# Altium footprint library Terminal.PcbLib: 11 footprints
Each footprint in its own frame and in the unit in brackets; x right, y up, seen from the top. Pads: shape width x height; smd on the part's side, far side on the other; paste and mask are expansions set on the pad; w line width, h text height; cw(c..) or ccw(c..) is an arc to the next point about the centre after c.
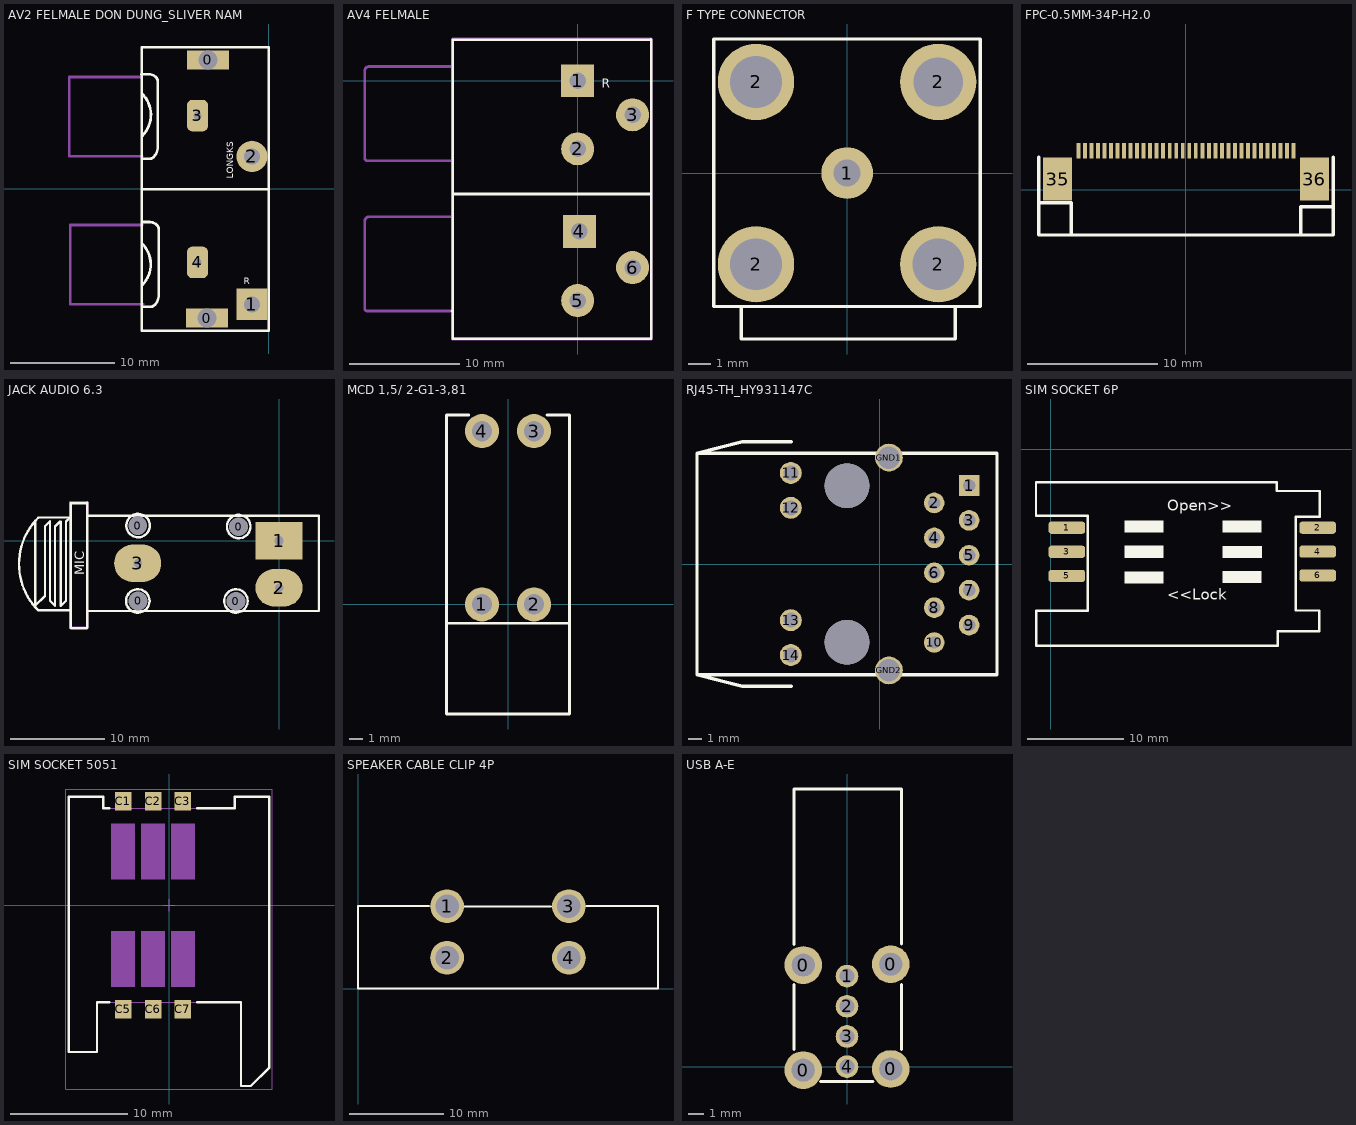
[diagram p0: the footprints below, top view; thin cyan lines are the x and y axes]

## AV2 FELMALE DON DUNG_SLIVER NAM [mm]
pads (6):
  rect 4x1.8 hole 1.8 square: 0(-5.9,-12.3) 0(-5.8,12.3)
  rect 3x3 hole 1.5: 1(-1.6,-11)
  round 3 hole 1.5: 2(-1.6,3.1)
  rrect50% 2x3 hole 0.8 square: 3(-6.8,7) 4(-6.8,-7)
Top Overlay:
  lines w0.254: -12.15,10.95 -11.439,10.95 cw(c-11.439,10.011) -10.775,10.675 cw(c-11.258,10.192) -10.575,10.192 -10.575,4.016 cw(c-11.941,4.016) -10.975,3.05 cw(c-11.397,3.472) -11.397,2.875 -12.075,2.875 ; -12.125,-5.15 cw(c-14.088,-7.188) -12.05,-9.15 ; -12.1,9.1 cw(c-14.063,7.063) -12.025,5.1 ; -12.05,-3.15 -11.339,-3.15 cw(c-11.339,-4.089) -10.675,-3.425 cw(c-11.158,-3.908) -10.475,-3.908 -10.475,-10.084 cw(c-11.841,-10.084) -10.875,-11.05 cw(c-11.297,-10.628) -11.297,-11.225 -11.975,-11.225 ; -12,-0.025 0,-0.025 ; -12.1,-13.5 -12.1,13.5 0,13.5 0,-13.5 -12.1,-13.5
  text "LONGKS" at -3.4,1 h0.64
  text "R" at -2.4,-9.1 h0.64
Mechanical 13:
  lines w0.254: -19.025,3.125 -12.075,3.125 ; -19.025,3.15 -19.025,10.675 -12.15,10.675 ; -18.925,-10.975 -11.975,-10.975 ; -18.925,-10.95 -18.925,-3.425 -12.05,-3.425
3D body "RCA-210.step": height 21, standoff -4, extent -19.3,-13.4 -1.4,13.4

## AV4 FELMALE [mm]
height 1.1
pads (6):
  rect 3x3 hole 1.5: 1(0,0) 4(0.152,-13.7)
  round 3 hole 1.5: 2(0,-6.2) 3(5,-3.1) 5(0,-20) 6(5,-17)
Top Overlay:
  lines w0.254: -11.425,-20.95 ccw(c-11.425,-20.925) -11.4,-20.925 ; -11.36,3.661 -11.36,-23.468 6.699,-23.446 6.699,3.712 6.649,3.762 ; -11.351,3.737 6.674,3.756 ; -11.35,-10.3 6.7,-10.3
  text "R" at 2.175,-0.625 h0.8
Mechanical 13:
  lines w0.254: -11.425,-20.95 -19.15,-20.95 cw(c-19.15,-20.725) -19.375,-20.725 -19.375,-12.775 cw(c-18.975,-12.775) -18.975,-12.375 -11.425,-12.375 ; -11.425,-7.275 -19.15,-7.275 cw(c-19.15,-7.05) -19.375,-7.05 -19.375,0.9 cw(c-18.975,0.9) -18.975,1.3 -11.425,1.3 ; -11.4,-23.5 -11.4,3.8 6.7,3.8 6.7,-23.5 -11.4,-23.5
3D body "AV4_8.4-13.stp": height 27.5, standoff -4.4, extent -19.5,-23.4 5.5,3.6

## F TYPE CONNECTOR [mm]
pads (5):
  round 2.3 hole 1.2: 1(0,0)
  round 3.4 hole 2.3: 2(-4.06,-4.06) 2(-4.06,4.06) 2(4.06,-4.06)
  round 3.4 hole 2.2: 2(4.06,4.06)
Top Overlay:
  lines w0.152: -4.72,-5.99 -4.72,-7.387 4.805,-7.387 4.805,-5.94 ; -5.94,-5.94 5.922,-5.94 5.922,5.973 -5.94,5.973 -5.94,-5.94
3D body "5-1634540-0.stp": height 13.5, standoff -3.6, extent -4.695,-23.297 4.805,4.703

## FPC-0.5MM-34P-H2.0 [mm]
pads (36):
  rect 0.3x1.2 smd: 1(-8.248,2.986) 2(-7.748,2.986) 3(-7.248,2.986) 4(-6.748,2.986) 5(-6.248,2.986) 6(-5.748,2.986) 7(-5.248,2.986) 8(-4.748,2.986) 9(-4.248,2.986) 10(-3.748,2.986) 11(-3.248,2.986) 12(-2.748,2.986) 13(-2.248,2.986) 14(-1.748,2.986) 15(-1.248,2.986) 16(-0.748,2.986) 17(-0.248,2.986) 18(0.25,2.988) 19(0.75,2.988) 20(1.25,2.988) 21(1.75,2.988) 22(2.25,2.988) 23(2.75,2.988) 24(3.25,2.988) 25(3.75,2.988) 26(4.25,2.988) 27(4.75,2.988) 28(5.25,2.988) 29(5.75,2.988) 30(6.25,2.988) 31(6.75,2.988) 32(7.252,2.986) 33(7.752,2.986) 34(8.247,2.989)
  rect 2.2x3.3 smd: 35(-9.85,0.818) 36(9.85,0.818)
Top Overlay:
  lines w0.25: -11.3,-1 -8.8,-1 -8.8,-3.4 ; 8.8,-3.4 8.8,-1.3 11.3,-1.3
  lines w0.254: -11.3,2.5 -11.3,-3.462 11.3,-3.462 11.3,2.5

## JACK AUDIO 6.3 [mm] "mic CK-6.35-309S-11.5"
height 1.1
pads (7):
  round 1.524 hole 2: 0(-14.986,1.6) 0(-14.961,-6.401) 0(-4.575,-6.425) 0(-4.3,1.475)
  rect 5x4 hole 1 square: 1(0,0)
  oval 5x4 hole 0.9 square: 2(0,-5) 3(-15,-2.4)
Top Overlay:
  circle w0.254: c-14.961,1.6 r1.246
  circle w0.254: c-14.986,-6.401 r1.246
  circle w0.254: c-4.575,-6.4 r1.246
  circle w0.254: c-4.275,1.5 r1.246
  lines w0.254: -25.883,2.007 -25.883,-6.909 -24.841,-5.867 -24.841,1.524 -24.308,2.057 -24.308,-6.375 -23.774,-6.909 -23.774,1.499 -23.241,2.032 -23.165,2.032 -23.165,-6.934 -22.606,-6.375 -22.606,2.032 -22.149,2.489 ; -25.578,-7.366 cw(c-20.663,-2.476) -25.552,2.438 ; -25.578,2.464 -22.123,2.464 ; -25.527,-7.391 -22.098,-7.391 ; -22.098,3.98 -22.098,-9.271 -22.073,-9.296 -20.396,-9.296 -20.371,-9.271 ; -22.073,3.988 -20.422,3.988 -20.396,3.962 ; -20.371,-9.246 -20.371,4.005 ; -20.371,-7.468 4.242,-7.468 4.242,2.642 -20.345,2.642
  text "MIC" at -20.675,-3.65 h1
Mechanical 13:
  lines w0.254: -20.371,4.039 -20.371,2.692 -20.295,2.616 4.216,2.616 4.216,-7.417 4.166,-7.468 -20.244,-7.468 -20.371,-7.595 -20.371,-9.169 -20.447,-9.246 -22.149,-9.246 -22.174,-9.271 -22.174,4.064 -20.371,4.064
3D body "Mic6.35x11.stp": height 11.25, standoff -4.25, extent -31.995,-9.423 4.005,4.577

## MCD 1,5/ 2-G1-3,81 [mm]
height 5.08
pads (4):
  round 2.5 hole 1.5: 1(-1.905,0) 2(1.905,0) 3(1.905,12.7) 4(-1.905,12.7)
Top Overlay:
  lines w0.2: -4.5,-1.375 4.5,-1.375 ; -2.875,13.875 -4.5,13.875 -4.5,-8.025 4.5,-8.025 4.5,13.875 2.85,13.875
3D body "1843075.stp": height 22.7, standoff -3.5, extent -4.475,-8.1 4.535,13.8

## RJ45-TH_HY931147C [mm] "C91754"
height 1.1
pads (18):
  rect 1.5x1.5 hole 0.9: 1(6.49,5.715)
  round 1.5 hole 0.9: 2(3.95,4.445) 3(6.49,3.175) 4(3.95,1.905) 5(6.49,0.635) 6(3.95,-0.635) 7(6.49,-1.905) 8(3.95,-3.175) 9(6.49,-4.445) 10(3.95,-5.715)
  round 1.6 hole 1.1: 11(-6.49,6.629) 12(-6.49,4.089) 13(-6.49,-4.089) 14(-6.49,-6.629)
  round 2.029 hole 1.631: GND1(0.648,7.747) GND2(0.648,-7.747)
  round 3.25 hole 3.25 unplated: ""(-2.4,-5.7) ""(-2.4,5.7)
Top Overlay:
  lines w0.254: -6.464,-8.89 -10.02,-8.89 -13.322,-8.052 ; -6.464,8.89 -10.02,8.89 -13.322,8.052 ; -1.13,-8.052 -13.322,-8.052 ; -1.13,8.052 -13.322,8.052 ; 2.172,-8.052 8.522,-8.052 ; 2.172,8.052 8.522,8.052 ; -13.322,-8.052 -13.322,8.052 ; -13.322,-8.052 8.522,-8.052 ; -13.322,-8.052 -13.322,8.052 ; -13.322,8.052 8.522,8.052 ; 8.522,-8.052 8.522,8.052 ; 8.522,-8.052 8.522,8.052
3D body "RJ45.stp": height 14, standoff -0.09, extent -13.325,-8.993 7.427,8.993

## SIM SOCKET 6P [mil]
pads (6):
  rrect50% 150x50 smd: 1(65,-320) 2(1088.62,-320) 3(65,-418.43) 4(1088.62,-417.5) 5(65,-516.85) 6(1088.62,-515)
Top Overlay:
  rectangle: 700,-545.67 860,-495.67
  rectangle: 700.79,-444.49 860.79,-394.49
  rectangle: 700,-340 860,-290
  rectangle: 299.84,-548.03 459.84,-498.03
  rectangle: 299.84,-443.31 459.84,-393.31
  rectangle: 300,-340 460,-290
  lines w10: -61.02,-271.26 -61.02,-134.65 921.26,-134.65 921.26,-170.08 1097.24,-170.08 1097.24,-274.8 1000,-274.8 1000,-657.87 1095.28,-657.87 1095.28,-742.91 925.2,-742.91 925.2,-801.57 -60.63,-801.57 -60.63,-659.06 150,-659.06 150,-271.26 -61.02,-271.26
  text "<<Lock" at 475,-615 h45
  text "Open>>" at 475,-250 h45
3D body "User Library-SIM5060-6-0-26-01-A.STEP": height 102.97, standoff -26.96, extent -66.14,-806.69 1100.79,-129.53

## SIM SOCKET 5051 [mm]
pads (6):
  rect 1.4x1.6 smd: C1(-3.9,8.85) C2(-1.36,8.85) C3(1.18,8.85) C5(-3.9,-8.85) C6(-1.36,-8.85) C7(1.18,-8.85)
Top Overlay:
  lines w0.2: -5.1,-8.25 -6.13,-8.25 -6.13,-12.5 -8.55,-12.5 -8.55,9.25 -5.6,9.25 -5.6,8.25 -5.1,8.25 ; 2.4,-8.25 6.13,-8.25 6.13,-15.4 6.97,-15.4 8.55,-13.82 8.55,9.25 5.6,9.25 5.6,8.25 2.4,8.25
Mechanical 13:
  lines w0.1: -8.55,-12.5 -8.55,9.25 -5.6,9.25 -5.6,8.25 5.6,8.25 5.6,9.25 8.55,9.25 8.55,-13.82 6.97,-15.4 6.13,-15.4 6.13,-8.25 -6.13,-8.25 -6.13,-12.5 -8.55,-12.5
Mechanical 15:
  region: 2.18,-6.95 0.18,-6.95 0.18,-2.2 2.18,-2.2
  region: -0.36,2.2 -2.36,2.2 -2.36,6.95 -0.36,6.95
  region: -0.36,-6.95 -2.36,-6.95 -2.36,-2.2 -0.36,-2.2
  region: 2.18,2.2 0.18,2.2 0.18,6.95 2.18,6.95
  region: -2.9,-6.95 -4.9,-6.95 -4.9,-2.2 -2.9,-2.2
  region: -2.9,2.2 -4.9,2.2 -4.9,6.95 -2.9,6.95
  lines w0.05: -8.8,-15.65 8.8,-15.65 8.8,9.9 -8.8,9.9 -8.8,-15.65
  lines w0.1: -0.5,0 0.5,0 ; 0,-0.5 0,0.5
3D body "473880001, SIM, Assembly.STEP": height 1.95, standoff -0.05, extent -9.083,-15.614 9.017,9.906

## SPEAKER CABLE CLIP 4P [mm]
pads (4):
  round 3.6 hole 2.5: 1(9.477,8.802) 2(9.477,3.302) 3(22.477,8.802) 4(22.477,3.302)
Top Overlay:
  lines w0.203: 7.569,8.802 -0.023,8.802 -0.023,0.002 31.977,0.002 31.977,8.802 24.333,8.802 ; 11.354,8.788 20.574,8.788

## USB A-E [mm] "A-USB A-E"
height 2.54
pads (8):
  round 2.5 hole 1.5: 0(-2.9,-0.229) 0(-2.896,6.731) 0(2.9,-0.152) 0(2.9,6.782)
  round 1.5 hole 1: 1(0,6) 2(0,4) 3(0,2) 4(0,0)
Top Overlay:
  lines w0.2: -3.505,1.143 -3.505,5.436 ; -3.505,8.103 -3.505,18.39 3.607,18.39 3.607,8.128 ; -1.753,-0.991 1.727,-0.991 ; 3.607,1.143 3.607,5.436
3D body "A-USB-A-E.stp": height 14.54, standoff -3.66, extent -3.509,-0.802 3.611,18.398